# EAGLE library part ISO1050 (library TI)
ISO1050 - Isolated 5V CAN Transceiver w/ 3.3V or 5V Logic http://www.ti.com/product/iso1050
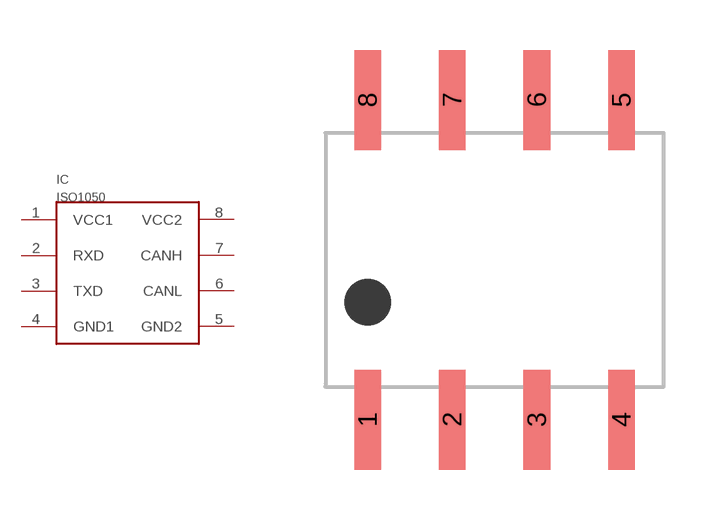
[diagram p14: symbol with the pads of DUB_(R-PDSO-G8); footprint DUB_(R-PDSO-G8)]

Designator prefix IC

## ISO1050 (PARTNO: ISO1050DUBR)  [DUB_(R-PDSO-G8)]
1  VCC1
2  RXD
3  TXD
4  GND1
5  GND2
6  CANL
7  CANH
8  VCC2

## Footprint DUB_(R-PDSO-G8) (pad centres in mm)
http://www.ti.com/lit/ds/symlink/iso1050.pdf
smd 0.8 x 3: 1 -3.81,-4.8; 2 -1.27,-4.8; 3 1.27,-4.8; 4 3.81,-4.8; 5 3.81,4.8; 6 1.27,4.8; 7 -1.27,4.8; 8 -3.81,4.8